# Altium footprint library 贴片元器件.PCBLIB: 208 footprints (part 9 of 13)
Each footprint in its own frame and in the unit in brackets; x right, y up, seen from the top. Pads: shape width x height; smd on the part's side, far side on the other; paste and mask are expansions set on the pad; w line width, h text height; cw(c..) or ccw(c..) is an arc to the next point about the centre after c.
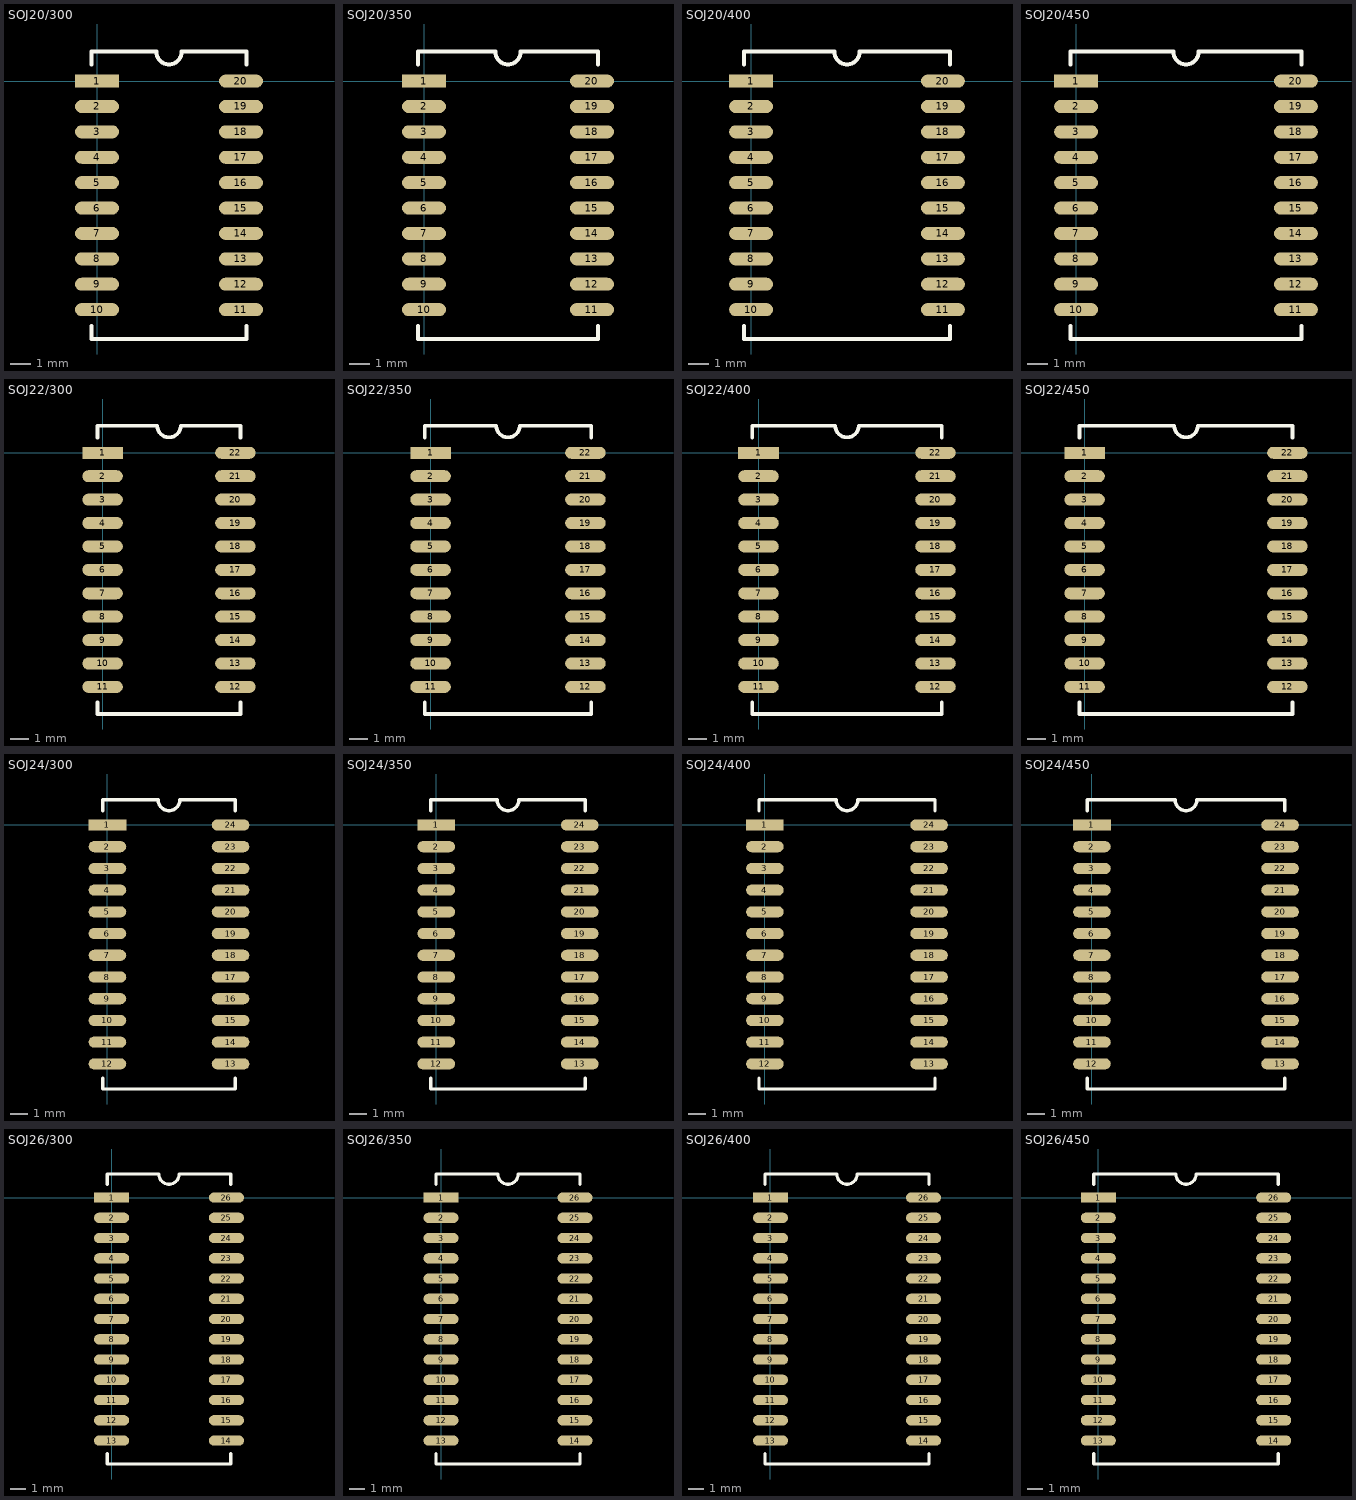
[diagram p8: the footprints below, top view; thin cyan lines are the x and y axes]

## SOJ20/300 [mm]
pads (20):
  rect 2.2x0.65 smd: 1(0,0)
  oval 2.2x0.65 smd: 2(0,-1.27) 3(0,-2.54) 4(0,-3.81) 5(0,-5.08) 6(0,-6.35) 7(0,-7.62) 8(0,-8.89) 9(0,-10.16) 10(0,-11.43) 11(7.2,-11.43) 12(7.2,-10.16) 13(7.2,-8.89) 14(7.2,-7.62) 15(7.2,-6.35) 16(7.2,-5.08) 17(7.2,-3.81) 18(7.2,-2.54) 19(7.2,-1.27) 20(7.2,0)
TopOverlay:
  lines w0.2: -0.275,-12.255 -0.275,-12.9 7.475,-12.9 7.475,-12.255 ; -0.275,0.825 -0.275,1.47 2.965,1.47 ccw(c3.6,1.47) 4.235,1.47 7.475,1.47 7.475,0.825

## SOJ20/350 [mm]
pads (20):
  rect 2.2x0.65 smd: 1(0,0)
  oval 2.2x0.65 smd: 2(0,-1.27) 3(0,-2.54) 4(0,-3.81) 5(0,-5.08) 6(0,-6.35) 7(0,-7.62) 8(0,-8.89) 9(0,-10.16) 10(0,-11.43) 11(8.4,-11.43) 12(8.4,-10.16) 13(8.4,-8.89) 14(8.4,-7.62) 15(8.4,-6.35) 16(8.4,-5.08) 17(8.4,-3.81) 18(8.4,-2.54) 19(8.4,-1.27) 20(8.4,0)
TopOverlay:
  lines w0.2: -0.31,-12.255 -0.31,-12.9 8.71,-12.9 8.71,-12.255 ; -0.31,0.825 -0.31,1.47 3.565,1.47 ccw(c4.2,1.47) 4.835,1.47 8.71,1.47 8.71,0.825

## SOJ20/400 [mm]
pads (20):
  rect 2.2x0.65 smd: 1(0,0)
  oval 2.2x0.65 smd: 2(0,-1.27) 3(0,-2.54) 4(0,-3.81) 5(0,-5.08) 6(0,-6.35) 7(0,-7.62) 8(0,-8.89) 9(0,-10.16) 10(0,-11.43) 11(9.6,-11.43) 12(9.6,-10.16) 13(9.6,-8.89) 14(9.6,-7.62) 15(9.6,-6.35) 16(9.6,-5.08) 17(9.6,-3.81) 18(9.6,-2.54) 19(9.6,-1.27) 20(9.6,0)
TopOverlay:
  lines w0.2: -0.345,-12.255 -0.345,-12.9 9.945,-12.9 9.945,-12.255 ; -0.345,0.825 -0.345,1.47 4.165,1.47 ccw(c4.8,1.47) 5.435,1.47 9.945,1.47 9.945,0.825

## SOJ20/450 [mm]
pads (20):
  rect 2.2x0.65 smd: 1(0,0)
  oval 2.2x0.65 smd: 2(0,-1.27) 3(0,-2.54) 4(0,-3.81) 5(0,-5.08) 6(0,-6.35) 7(0,-7.62) 8(0,-8.89) 9(0,-10.16) 10(0,-11.43) 11(11,-11.43) 12(11,-10.16) 13(11,-8.89) 14(11,-7.62) 15(11,-6.35) 16(11,-5.08) 17(11,-3.81) 18(11,-2.54) 19(11,-1.27) 20(11,0)
TopOverlay:
  lines w0.2: -0.28,-12.255 -0.28,-12.9 11.28,-12.9 11.28,-12.255 ; -0.28,0.825 -0.28,1.47 4.865,1.47 ccw(c5.5,1.47) 6.135,1.47 11.28,1.47 11.28,0.825

## SOJ22/300 [mm]
pads (22):
  rect 2.2x0.65 smd: 1(0,0)
  oval 2.2x0.65 smd: 2(0,-1.27) 3(0,-2.54) 4(0,-3.81) 5(0,-5.08) 6(0,-6.35) 7(0,-7.62) 8(0,-8.89) 9(0,-10.16) 10(0,-11.43) 11(0,-12.7) 12(7.2,-12.7) 13(7.2,-11.43) 14(7.2,-10.16) 15(7.2,-8.89) 16(7.2,-7.62) 17(7.2,-6.35) 18(7.2,-5.08) 19(7.2,-3.81) 20(7.2,-2.54) 21(7.2,-1.27) 22(7.2,0)
TopOverlay:
  lines w0.2: -0.275,-13.525 -0.275,-14.17 7.475,-14.17 7.475,-13.525 ; -0.275,0.825 -0.275,1.47 2.965,1.47 ccw(c3.6,1.47) 4.235,1.47 7.475,1.47 7.475,0.825

## SOJ22/350 [mm]
pads (22):
  rect 2.2x0.65 smd: 1(0,0)
  oval 2.2x0.65 smd: 2(0,-1.27) 3(0,-2.54) 4(0,-3.81) 5(0,-5.08) 6(0,-6.35) 7(0,-7.62) 8(0,-8.89) 9(0,-10.16) 10(0,-11.43) 11(0,-12.7) 12(8.4,-12.7) 13(8.4,-11.43) 14(8.4,-10.16) 15(8.4,-8.89) 16(8.4,-7.62) 17(8.4,-6.35) 18(8.4,-5.08) 19(8.4,-3.81) 20(8.4,-2.54) 21(8.4,-1.27) 22(8.4,0)
TopOverlay:
  lines w0.2: -0.31,-13.525 -0.31,-14.17 8.71,-14.17 8.71,-13.525 ; -0.31,0.825 -0.31,1.47 3.565,1.47 ccw(c4.2,1.47) 4.835,1.47 8.71,1.47 8.71,0.825

## SOJ22/400 [mm]
pads (22):
  rect 2.2x0.65 smd: 1(0,0)
  oval 2.2x0.65 smd: 2(0,-1.27) 3(0,-2.54) 4(0,-3.81) 5(0,-5.08) 6(0,-6.35) 7(0,-7.62) 8(0,-8.89) 9(0,-10.16) 10(0,-11.43) 11(0,-12.7) 12(9.6,-12.7) 13(9.6,-11.43) 14(9.6,-10.16) 15(9.6,-8.89) 16(9.6,-7.62) 17(9.6,-6.35) 18(9.6,-5.08) 19(9.6,-3.81) 20(9.6,-2.54) 21(9.6,-1.27) 22(9.6,0)
TopOverlay:
  lines w0.2: -0.345,-13.525 -0.345,-14.17 9.945,-14.17 9.945,-13.525 ; -0.345,0.825 -0.345,1.47 4.165,1.47 ccw(c4.8,1.47) 5.435,1.47 9.945,1.47 9.945,0.825

## SOJ22/450 [mm]
pads (22):
  rect 2.2x0.65 smd: 1(0,0)
  oval 2.2x0.65 smd: 2(0,-1.27) 3(0,-2.54) 4(0,-3.81) 5(0,-5.08) 6(0,-6.35) 7(0,-7.62) 8(0,-8.89) 9(0,-10.16) 10(0,-11.43) 11(0,-12.7) 12(11,-12.7) 13(11,-11.43) 14(11,-10.16) 15(11,-8.89) 16(11,-7.62) 17(11,-6.35) 18(11,-5.08) 19(11,-3.81) 20(11,-2.54) 21(11,-1.27) 22(11,0)
TopOverlay:
  lines w0.2: -0.28,-13.525 -0.28,-14.17 11.28,-14.17 11.28,-13.525 ; -0.28,0.825 -0.28,1.47 4.865,1.47 ccw(c5.5,1.47) 6.135,1.47 11.28,1.47 11.28,0.825

## SOJ24/300 [mm]
pads (24):
  rect 2.2x0.65 smd: 1(0,0)
  oval 2.2x0.65 smd: 2(0,-1.27) 3(0,-2.54) 4(0,-3.81) 5(0,-5.08) 6(0,-6.35) 7(0,-7.62) 8(0,-8.89) 9(0,-10.16) 10(0,-11.43) 11(0,-12.7) 12(0,-13.97) 13(7.2,-13.97) 14(7.2,-12.7) 15(7.2,-11.43) 16(7.2,-10.16) 17(7.2,-8.89) 18(7.2,-7.62) 19(7.2,-6.35) 20(7.2,-5.08) 21(7.2,-3.81) 22(7.2,-2.54) 23(7.2,-1.27) 24(7.2,0)
TopOverlay:
  lines w0.2: -0.275,-14.795 -0.275,-15.44 7.475,-15.44 7.475,-14.795 ; -0.275,0.825 -0.275,1.47 2.965,1.47 ccw(c3.6,1.47) 4.235,1.47 7.475,1.47 7.475,0.825

## SOJ24/350 [mm]
pads (24):
  rect 2.2x0.65 smd: 1(0,0)
  oval 2.2x0.65 smd: 2(0,-1.27) 3(0,-2.54) 4(0,-3.81) 5(0,-5.08) 6(0,-6.35) 7(0,-7.62) 8(0,-8.89) 9(0,-10.16) 10(0,-11.43) 11(0,-12.7) 12(0,-13.97) 13(8.4,-13.97) 14(8.4,-12.7) 15(8.4,-11.43) 16(8.4,-10.16) 17(8.4,-8.89) 18(8.4,-7.62) 19(8.4,-6.35) 20(8.4,-5.08) 21(8.4,-3.81) 22(8.4,-2.54) 23(8.4,-1.27) 24(8.4,0)
TopOverlay:
  lines w0.2: -0.31,-14.795 -0.31,-15.44 8.71,-15.44 8.71,-14.795 ; -0.31,0.825 -0.31,1.47 3.565,1.47 ccw(c4.2,1.47) 4.835,1.47 8.71,1.47 8.71,0.825

## SOJ24/400 [mm]
pads (24):
  rect 2.2x0.65 smd: 1(0,0)
  oval 2.2x0.65 smd: 2(0,-1.27) 3(0,-2.54) 4(0,-3.81) 5(0,-5.08) 6(0,-6.35) 7(0,-7.62) 8(0,-8.89) 9(0,-10.16) 10(0,-11.43) 11(0,-12.7) 12(0,-13.97) 13(9.6,-13.97) 14(9.6,-12.7) 15(9.6,-11.43) 16(9.6,-10.16) 17(9.6,-8.89) 18(9.6,-7.62) 19(9.6,-6.35) 20(9.6,-5.08) 21(9.6,-3.81) 22(9.6,-2.54) 23(9.6,-1.27) 24(9.6,0)
TopOverlay:
  lines w0.2: -0.345,-14.795 -0.345,-15.44 9.945,-15.44 9.945,-14.795 ; -0.345,0.825 -0.345,1.47 4.165,1.47 ccw(c4.8,1.47) 5.435,1.47 9.945,1.47 9.945,0.825

## SOJ24/450 [mm]
pads (24):
  rect 2.2x0.65 smd: 1(0,0)
  oval 2.2x0.65 smd: 2(0,-1.27) 3(0,-2.54) 4(0,-3.81) 5(0,-5.08) 6(0,-6.35) 7(0,-7.62) 8(0,-8.89) 9(0,-10.16) 10(0,-11.43) 11(0,-12.7) 12(0,-13.97) 13(11,-13.97) 14(11,-12.7) 15(11,-11.43) 16(11,-10.16) 17(11,-8.89) 18(11,-7.62) 19(11,-6.35) 20(11,-5.08) 21(11,-3.81) 22(11,-2.54) 23(11,-1.27) 24(11,0)
TopOverlay:
  lines w0.2: -0.28,-14.795 -0.28,-15.44 11.28,-15.44 11.28,-14.795 ; -0.28,0.825 -0.28,1.47 4.865,1.47 ccw(c5.5,1.47) 6.135,1.47 11.28,1.47 11.28,0.825

## SOJ26/300 [mm]
pads (26):
  rect 2.2x0.65 smd: 1(0,0)
  oval 2.2x0.65 smd: 2(0,-1.27) 3(0,-2.54) 4(0,-3.81) 5(0,-5.08) 6(0,-6.35) 7(0,-7.62) 8(0,-8.89) 9(0,-10.16) 10(0,-11.43) 11(0,-12.7) 12(0,-13.97) 13(0,-15.24) 14(7.2,-15.24) 15(7.2,-13.97) 16(7.2,-12.7) 17(7.2,-11.43) 18(7.2,-10.16) 19(7.2,-8.89) 20(7.2,-7.62) 21(7.2,-6.35) 22(7.2,-5.08) 23(7.2,-3.81) 24(7.2,-2.54) 25(7.2,-1.27) 26(7.2,0)
TopOverlay:
  lines w0.2: -0.275,-16.065 -0.275,-16.71 7.475,-16.71 7.475,-16.065 ; -0.275,0.825 -0.275,1.47 2.965,1.47 ccw(c3.6,1.47) 4.235,1.47 7.475,1.47 7.475,0.825

## SOJ26/350 [mm]
pads (26):
  rect 2.2x0.65 smd: 1(0,0)
  oval 2.2x0.65 smd: 2(0,-1.27) 3(0,-2.54) 4(0,-3.81) 5(0,-5.08) 6(0,-6.35) 7(0,-7.62) 8(0,-8.89) 9(0,-10.16) 10(0,-11.43) 11(0,-12.7) 12(0,-13.97) 13(0,-15.24) 14(8.4,-15.24) 15(8.4,-13.97) 16(8.4,-12.7) 17(8.4,-11.43) 18(8.4,-10.16) 19(8.4,-8.89) 20(8.4,-7.62) 21(8.4,-6.35) 22(8.4,-5.08) 23(8.4,-3.81) 24(8.4,-2.54) 25(8.4,-1.27) 26(8.4,0)
TopOverlay:
  lines w0.2: -0.31,-16.065 -0.31,-16.71 8.71,-16.71 8.71,-16.065 ; -0.31,0.825 -0.31,1.47 3.565,1.47 ccw(c4.2,1.47) 4.835,1.47 8.71,1.47 8.71,0.825

## SOJ26/400 [mm]
pads (26):
  rect 2.2x0.65 smd: 1(0,0)
  oval 2.2x0.65 smd: 2(0,-1.27) 3(0,-2.54) 4(0,-3.81) 5(0,-5.08) 6(0,-6.35) 7(0,-7.62) 8(0,-8.89) 9(0,-10.16) 10(0,-11.43) 11(0,-12.7) 12(0,-13.97) 13(0,-15.24) 14(9.6,-15.24) 15(9.6,-13.97) 16(9.6,-12.7) 17(9.6,-11.43) 18(9.6,-10.16) 19(9.6,-8.89) 20(9.6,-7.62) 21(9.6,-6.35) 22(9.6,-5.08) 23(9.6,-3.81) 24(9.6,-2.54) 25(9.6,-1.27) 26(9.6,0)
TopOverlay:
  lines w0.2: -0.345,-16.065 -0.345,-16.71 9.945,-16.71 9.945,-16.065 ; -0.345,0.825 -0.345,1.47 4.165,1.47 ccw(c4.8,1.47) 5.435,1.47 9.945,1.47 9.945,0.825

## SOJ26/450 [mm]
pads (26):
  rect 2.2x0.65 smd: 1(0,0)
  oval 2.2x0.65 smd: 2(0,-1.27) 3(0,-2.54) 4(0,-3.81) 5(0,-5.08) 6(0,-6.35) 7(0,-7.62) 8(0,-8.89) 9(0,-10.16) 10(0,-11.43) 11(0,-12.7) 12(0,-13.97) 13(0,-15.24) 14(11,-15.24) 15(11,-13.97) 16(11,-12.7) 17(11,-11.43) 18(11,-10.16) 19(11,-8.89) 20(11,-7.62) 21(11,-6.35) 22(11,-5.08) 23(11,-3.81) 24(11,-2.54) 25(11,-1.27) 26(11,0)
TopOverlay:
  lines w0.2: -0.28,-16.065 -0.28,-16.71 11.28,-16.71 11.28,-16.065 ; -0.28,0.825 -0.28,1.47 4.865,1.47 ccw(c5.5,1.47) 6.135,1.47 11.28,1.47 11.28,0.825